# Altium schematic symbol library Xbee_Co.SchLib: 14 symbols
Pins are listed as number, name and electrical type; pins without a type are passive.

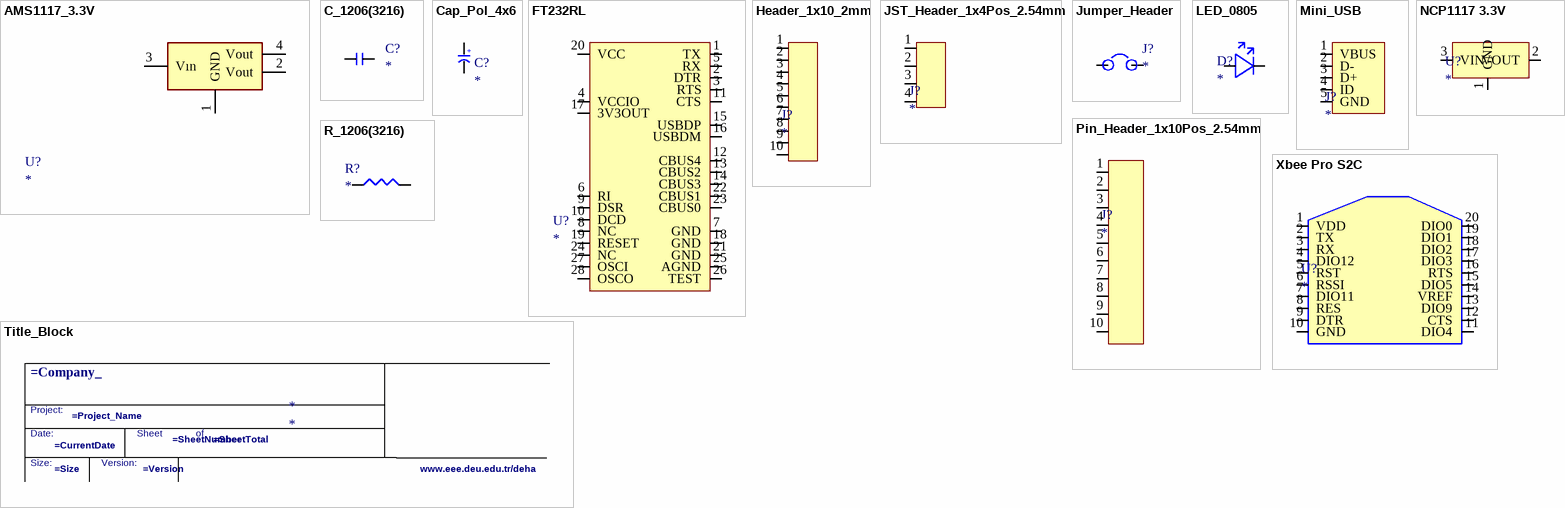
[diagram p0: symbols AMS1117_3.3V to Xbee Pro S2C]

## AMS1117_3.3V
designator U?
Linear Regulator.         3.3V,1A Output.                        SOT-223 Package.
footprint SOT223-AMS1117
pins: 1 GND, 2 Vout, 3 Vın, 4 Vout

## C_1206(3216)
designator C?
1206(3216) package capacitor
footprint C_1206
pins: 1 7, 2 8

## Cap_Pol_4x6
designator C?
4x6 Radial Polarized Capacitor
footprint CP_Radial_D5mm_L11mm_P2mm
pins: 1 11, 2 12
text: +

## FT232RL
designator U?
FT232RL_USB-Converter
footprint SSOP-28Pin (SOP, 28-Leads, Body 10,28x5,30mm, Pitch 0,65mm, IPC Medium Density)
pins: 1 TX, 2 DTR, 3 RTS, 4 VCCIO, 5 RX, 6 RI, 7 GND, 8 NC, 9 DSR, 10 DCD, 11 CTS, 12 CBUS4, 13 CBUS2, 14 CBUS3, 15 USBDP, 16 USBDM, 17 3V3OUT, 18 GND, 19 RESET, 20 VCC, 21 GND, 22 CBUS1, 23 CBUS0, 24 NC, 25 AGND, 26 TEST, 27 OSCI, 28 OSCO

## Header_1x10_2mm
designator J?
Header_1x10_2mm
footprint Header 1x10 2mm
pins: 1, 2, 3, 4, 5, 6, 7, 8, 9, 10

## JST_Header_1x4Pos_2.54mm
designator J?
JST_Header_1x4Pos_2.54mm
footprint JST Header_1x4Pin_2.54mm
pins: 1 11, 2 12, 3 13, 4 14

## Jumper_Header
designator J?
footprint Jumper_Header
pins: 1 0, 2 1

## LED_0805
designator D?
footprint LED_0805
pins: 1 9, 2 10

## Mini_USB
designator J?
Mini_USB
footprint Mini_USB
pins: 1 VBUS, 2 D-, 3 D+, 4 ID, 5 GND

## NCP1117 3.3V
designator U?
NCP1117-3.3V Linear Regulator
footprint NCP1117 3.3V
pins: 1 GND, 2 VOUT, 3 VIN

## Pin_Header_1x10Pos_2.54mm
designator J?
Pin_Header_1x10Pos_2.54mm
footprint PinHeader_1x10Pin_2.54mm
pins: 1 11, 2 12, 3 13, 4 14, 5, 6, 7, 8, 9, 10

## R_1206(3216)
designator R?
1206(3216) package resistor
footprint R_1206
pins: 1 4, 2 5

## Title_Block
designator *
text: Project:; Date:; Sheet; of; Size:; Version:; www.eee.deu.edu.tr/deha

## Xbee Pro S2C
designator U?
Xbee Pro S2C
footprint Xbee ProS2C
pins: 1 VDD, 2 TX, 3 RX, 4 DIO12, 5 RST, 6 RSSI, 7 DIO11, 8 RES, 9 DTR, 10 GND, 11 DIO4, 12 CTS, 13 DIO9, 14 VREF, 15 DIO5, 16 RTS, 17 DIO3, 18 DIO2, 19 DIO1, 20 DIO0